# Altium footprint library ComponentesLayOut.PcbLib: 2 footprints
Each footprint in its own frame and in the unit in brackets; x right, y up, seen from the top. Pads: shape width x height; smd on the part's side, far side on the other; paste and mask are expansions set on the pad; w line width, h text height; cw(c..) or ccw(c..) is an arc to the next point about the centre after c.
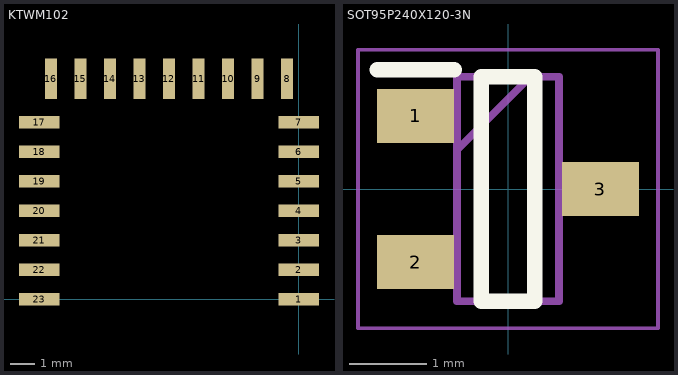
[diagram p0: the footprints below, top view; thin cyan lines are the x and y axes]

## KTWM102 [mm]
pads (23):
  rect 1.65x0.5 smd: 1(0,0) 2(0,1.2) 3(0,2.4) 4(0,3.6) 5(0,4.8) 6(0,6) 7(0,7.2) 17(-10.55,7.2) 18(-10.55,6) 19(-10.55,4.8) 20(-10.55,3.6) 21(-10.55,2.4) 22(-10.55,1.2) 23(-10.55,0)
  rect 0.5x1.65 smd: 8(-0.475,8.975) 9(-1.675,8.975) 10(-2.875,8.975) 11(-4.075,8.975) 12(-5.275,8.975) 13(-6.475,8.975) 14(-7.675,8.975) 15(-8.875,8.975) 16(-10.075,8.975)
3D body: height 2, standoff 0, extent -10.785,-5.982 0.314,9.429

## SOT95P240X120-3N [mm]
pads (3):
  rect 1x0.7 smd: 1(-1.2,0.95) 2(-1.2,-0.95) 3(1.2,0)
Top Overlay:
  lines w0.2: -1.7,1.55 -0.7,1.55 ; -0.35,-1.46 -0.35,1.46 0.35,1.46 0.35,-1.46 -0.35,-1.46
Mechanical 13:
  lines w0.1: -0.662,0.51 0.288,1.46 ; -0.662,-1.46 -0.662,1.46 0.662,1.46 0.662,-1.46 -0.662,-1.46
Mechanical 15:
  lines w0.05: -1.95,-1.81 -1.95,1.81 1.95,1.81 1.95,-1.81 -1.95,-1.81
3D body "BSS138.stp": height 1.2, standoff 0, extent -1.2,-1.46 1.2,1.46